# EAGLE library part ADP3331ARTZ-REEL7 (library robotter_ic)
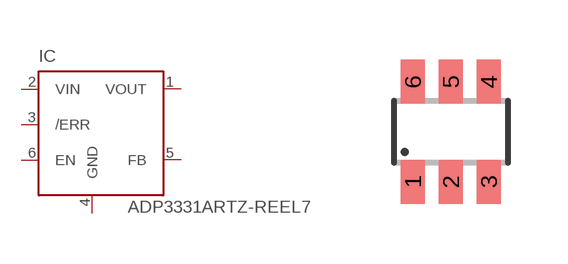
[diagram p24: symbol with the pads of SOT23-6; footprint SOT23-6]

Designator prefix IC

## ADP3331ARTZ-REEL7  [SOT23-6]
1  VOUT
2  VIN
3  /ERR
4  GND
5  FB
6  EN

## Footprint SOT23-6 (pad centres in mm)
Small Outline Transistor 6 lead
smd 0.6 x 1.1: 1 -0.95,-1.25; 2 0,-1.25; 3 0.95,-1.25; 4 0.95,1.25; 5 0,1.25; 6 -0.95,1.25